# EAGLE library part DF13-8 (library Custom_Library)
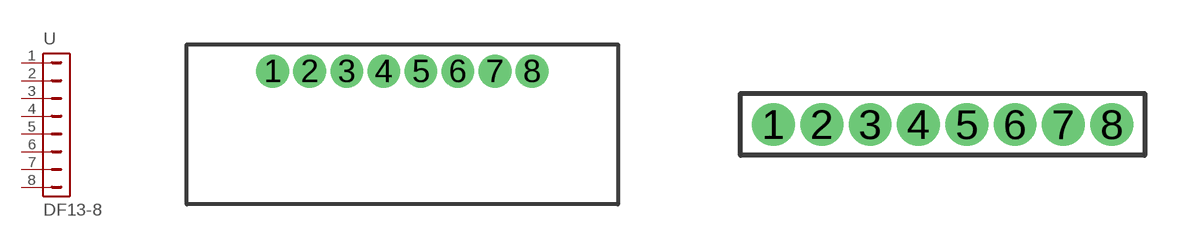
[diagram p15: symbol with the pads of DF13-8; footprints DF13-8, DF13-8_THIN]

Designator prefix -

## DF13-8  [DF13-8]
1  1  pas
2  2  pas
3  3  pas
4  4  pas
5  5  pas
6  6  pas
7  7  pas
8  8  pas

## DF13-8THIN  [DF13-8_THIN]
Pads as for DF13-8

## Footprint DF13-8 (pad centres in mm)
drill 0.6 pad 1.016: 1 -4.45,1.55; 2 -3.2,1.55; 3 -1.95,1.55; 4 -0.7,1.55; 5 0.55,1.55; 6 1.8,1.55; 7 3.05,1.55; 8 4.3,1.55

## Footprint DF13-8_THIN (pad centres in mm)
drill 0.6 pad 1.016: 1 -4.45,0.28; 2 -3.2,0.28; 3 -1.95,0.28; 4 -0.7,0.28; 5 0.55,0.28; 6 1.8,0.28; 7 3.05,0.28; 8 4.3,0.28